# EAGLE library part 5227106 (library CON-Hirose-AON)
FFC connector 6pin bottom 1,0mm slide lock
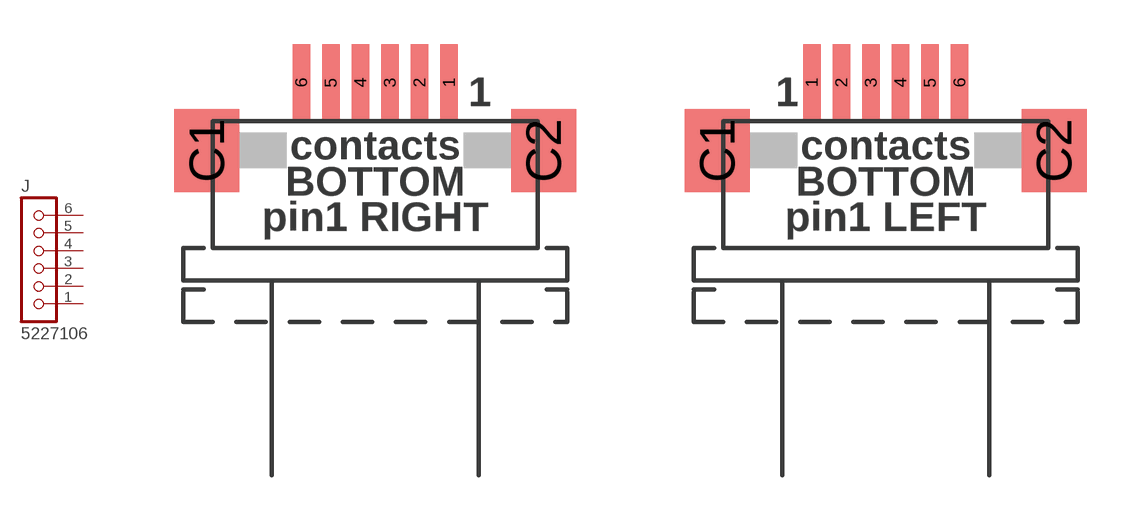
[diagram p7: symbol with the pads of 5227106/1.RIGHT; footprints 5227106/1.RIGHT, 5227106/1.LEFT]

Designator prefix J

## 5227106/1.RIGHT  [5227106/1.RIGHT]
1  1  pas
2  2  pas
3  3  pas
4  4  pas
5  5  pas
6  6  pas

## 5227106/1.LEFT  [5227106/1.LEFT]
Pads as for 5227106/1.RIGHT

## Footprint 5227106/1.RIGHT (pad centres in mm)
6pin 1mm, contacts BOTTOM, pin1 RIGHT
smd 0.6 x 2.6: 1 2.5,3.3; 2 1.5,3.3; 3 0.5,3.3; 4 -0.5,3.3; 5 -1.5,3.3; 6 -2.5,3.3
smd 2.2 x 2.8: C1 -5.7,1; C2 5.7,1

## Footprint 5227106/1.LEFT (pad centres in mm)
6pin 1mm, contacts BOTTOM, pin1 LEFT
smd 0.6 x 2.6: 1 -2.5,3.3; 2 -1.5,3.3; 3 -0.5,3.3; 4 0.5,3.3; 5 1.5,3.3; 6 2.5,3.3
smd 2.2 x 2.8: C1 -5.7,1; C2 5.7,1